# Altium footprint library 22-Pcblib_Audio.PcbLib: 32 footprints (part 2 of 2)
Each footprint in its own frame and in the unit in brackets; x right, y up, seen from the top. Pads: shape width x height; smd on the part's side, far side on the other; paste and mask are expansions set on the pad; w line width, h text height; cw(c..) or ccw(c..) is an arc to the next point about the centre after c.
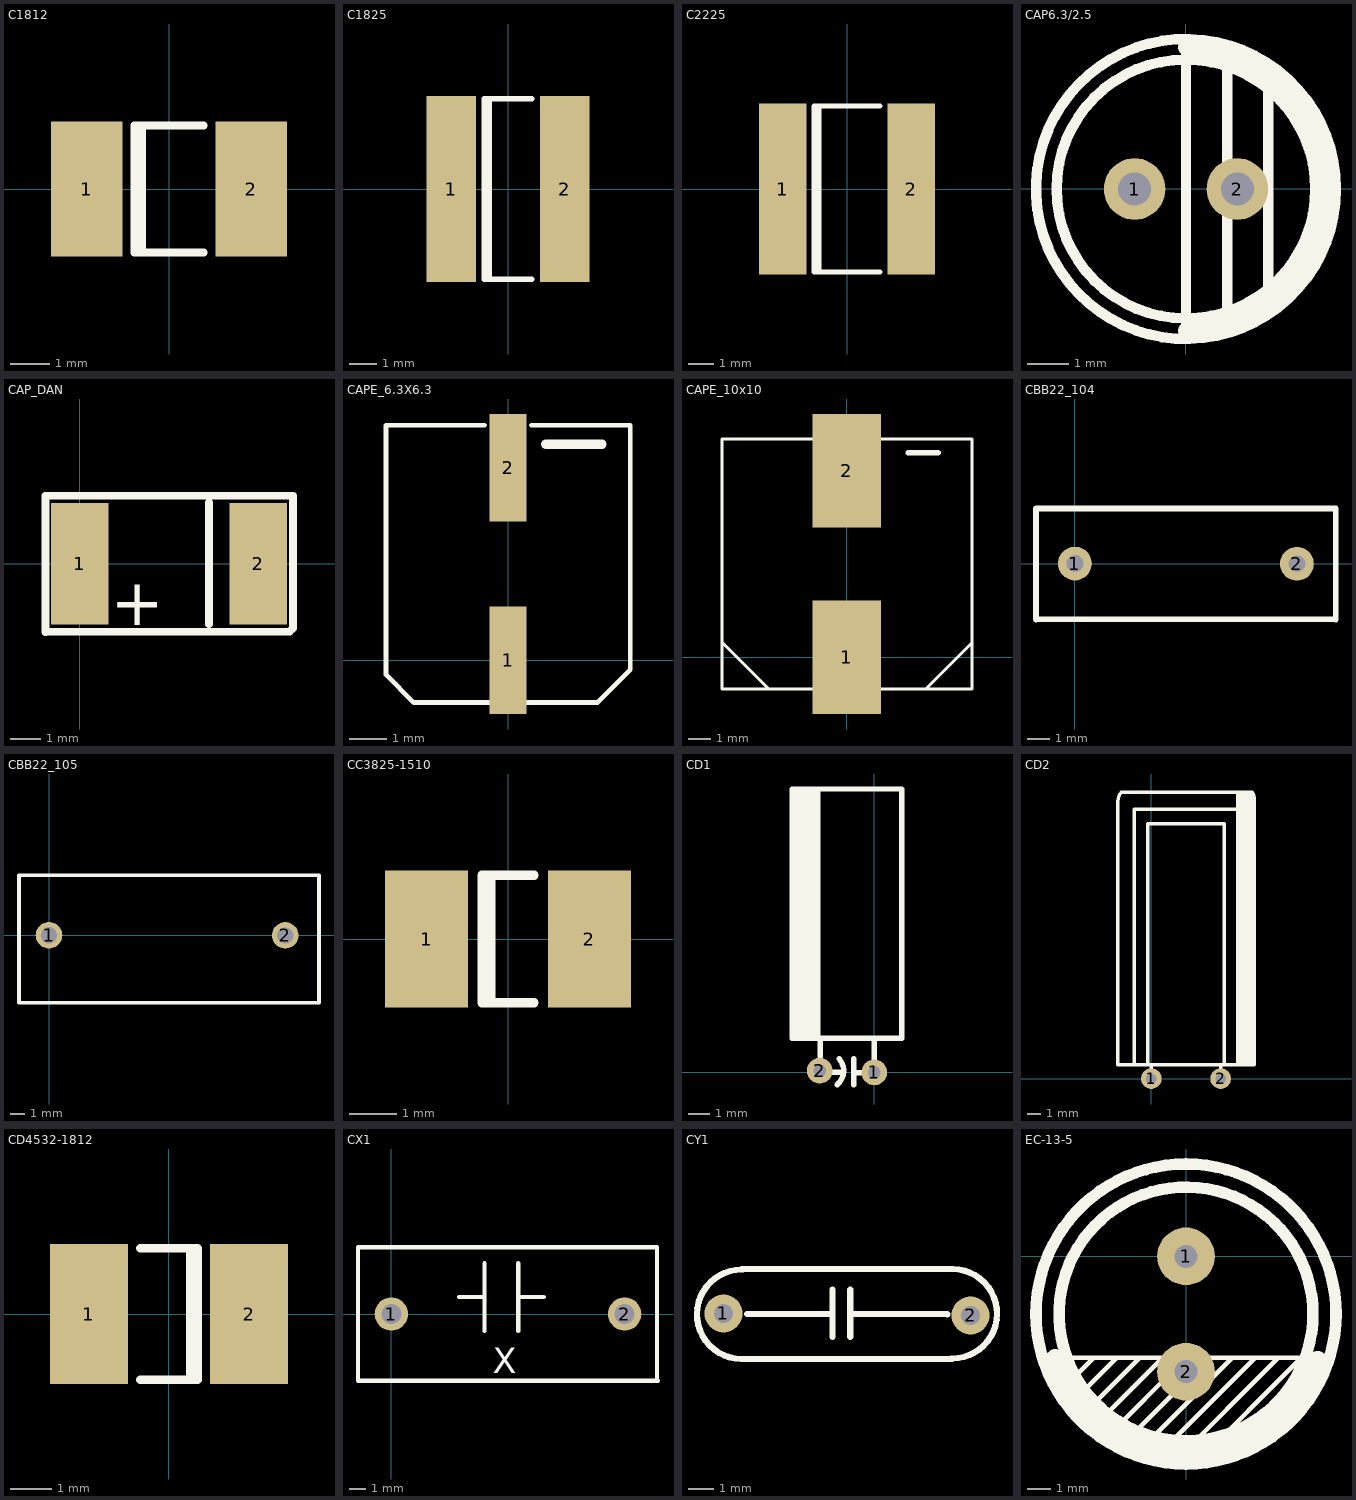
[diagram p1: the footprints below, top view; thin cyan lines are the x and y axes]

## C1812 [mm] "Chip Capacitor; Body 4.5 x 3.2 mm (LxW typ)"
height 2.03
pads (2):
  rect 1.8x3.4 smd: 1(-2.075,0) 2(2.075,0)
Top Overlay:
  lines w0.2: -0.685,-1.6 -0.685,1.6 ; 0.875,-1.6 -0.875,-1.6 -0.875,1.6 0.875,1.6

## C1825 [mm] "Chip Capacitor; Body 4.5 x 6.4 mm (LxW typ)"
height 2.03
pads (2):
  rect 1.8x6.8 smd: 1(-2.075,0) 2(2.075,0)
Top Overlay:
  lines w0.2: -0.685,-3.3 -0.685,3.3 ; 0.875,-3.3 -0.875,-3.3 -0.875,3.3 0.875,3.3

## C2225 [mm] "Chip Capacitor; Body 5.6 x 6.4 mm (LxW typ)"
height 2.03
pads (2):
  rect 1.9x6.8 smd: 1(-2.55,0) 2(2.55,0)
Top Overlay:
  lines w0.2: -1.11,-3.3 -1.11,3.3 ; 1.3,-3.3 -1.3,-3.3 -1.3,3.3 1.3,3.3

## CAP6.3/2.5 [mm]
pads (2):
  round 1.5 hole 0.8: 1(-1.25,-0.002) 2(1.25,-0.002)
Top Overlay:
  circle w0.254: c0,-0.002 r3.65
  circle w0.254: c0,-0.002 r3.15
  lines w0.254: 0,-3.652 0,3.648 ; 1,-3.502 1,3.498 ; 2,-3.002 2,2.998
  lines w0.4: 0,-3.452 ccw(c0,-0.002) 0,3.448

## CAP_DAN [mm]
pads (2):
  rect 1.905x4 smd: 1(0,0) 2(5.88,0)
Top Overlay:
  lines w0.2: -1.065,-2.24 1.348,-2.24
  lines w0.254: -1.13,-2.254 -1.13,2.23 ; -1.127,2.24 7.025,2.24 7.025,-2.121 6.906,-2.24 ; -1.065,-2.24 6.906,-2.24 ; 1.348,-2.24 6.906,-2.24 ; 4.26,-1.98 4.26,2.02
  text "+" at 1.016,-2.032 h1.52

## CAPE_6.3X6.3 [mm]
pads (2):
  rect 1x2.9 smd: 1(0,0) 2(0,5.207)
Top Overlay:
  lines w0.127: -3.302,-0.381 -2.542,-1.141 2.415,-1.141 3.3,-0.256 3.3,6.35 0.635,6.35 ; -3.3,-0.379 -3.3,6.35 -0.635,6.35
  lines w0.254: 1.016,5.842 2.54,5.842

## CAPE_10x10 [mm]
pads (2):
  rect 3x5 smd: 1(0,0) 2(0,8.204)
Top Overlay:
  lines w0.127: -5.486,0.659 -3.429,-1.399 ; 3.48,-1.399 5.514,0.635 ; -5.486,-1.399 -5.486,9.601 5.514,9.601 5.514,-1.399 -5.486,-1.399
  lines w0.254: 2.714,9.001 4.014,9.001

## CBB22_104 [mil]
pads (2):
  round 60 hole 30: 1(0,0) 2(393.7,-0.39)
Top Overlay:
  lines w10: -68.9,-99.21 -68.9,97.64 ; -68.9,-98.82 462.6,-98.82 ; -68.11,97.64 461.65,97.64 cw(c461.65,96.29) 462.6,97.24 462.6,-99.21

## CBB22_105 [mm] "105"
pads (2):
  round 1.8 hole 1.1: 1(0,0) 2(16,-0.01)
Top Overlay:
  lines w0.254: -2.032,-4.572 -2.032,4.064 18.288,4.064 18.288,-4.572 -2.032,-4.572

## CC3825-1510 [mm]
pads (2):
  rect 1.75x2.9 smd: 1(-1.725,0) 2(1.725,0)
Top Overlay:
  lines w0.2: -0.36,-1.35 -0.36,1.35 ; 0.55,-1.35 -0.55,-1.35 -0.55,1.35 0.55,1.35

## CD1 [mm]
pads (2):
  round 1.2 hole 0.6: 1(0,0) 2(-2.54,0.08)
Top Overlay:
  rectangle: -3.82,1.59 -2.62,13.19
  lines w0.254: -2.62,1.59 -2.62,13.19 ; -2.52,1.59 cw(c-2.544,1.566) -2.51,1.566 -2.51,0.75 ; -1.95,0 cw(c-1.926,-0.024) -1.926,0.01 -1.53,0.01 ; -1.73,-0.57 ccw(c-2.28,0.08) -1.63,0.63 ; -0.95,-0.57 -0.95,0.63 ; -0.95,-0.01 -0.58,-0.01 ; -0.02,1.59 cw(c-0.044,1.566) -0.01,1.566 -0.01,0.61 ; -3.82,1.59 -3.82,13.19 1.28,13.19 1.28,1.59 -3.82,1.59

## CD2 [mil]
pads (2):
  round 60 hole 30: 1(0,0) 2(200.79,0)
Top Overlay:
  rectangle: 288.98,811.42 291.34,827.56
  rectangle: 244.88,811.42 288.98,827.56
  rectangle: 244.88,775.98 297.24,818.11
  rectangle: 250,40.55 297.24,778.41
  lines w10: -49.21,40.71 -49.21,533.47 ; -49.21,506.3 -49.21,742.75 -49.21,774.38 ; -49.12,778.41 81.1,778.41 ; -9.84,39.76 -9.84,658.66 -9.84,737.14 70.47,737.14 196.46,737.14 210.3,737.14 cw(c210.3,736.68) 210.63,737.01 210.63,659.45 ; -0.39,39.76 cw(c-1.34,38.81) 0,38.81 0,0 ; 71.26,778.41 250,778.41 250,725.2 250,405.51 ; 200.79,0 200.79,38.81 ; 210.63,679.53 210.63,40.72 ; 250,39.76 250,429.92 ; 297.24,39.76 -96.46,39.76 -96.46,803.42 cw(c-62.31,803.42) -86.46,827.56 282.5,827.56 291.34,827.56 cw(c277.08,813.3) 297.25,813.3 297.24,791.96 297.24,40.95 ; 200.79,38.81 cw(c202.13,38.81) 201.18,39.76 ccw(c202.13,38.81) 200.79,38.81 ; 210.63,40.72 cw(c209.29,40.72) 210.24,39.76 ccw(c209.29,40.72) 210.63,40.72

## CD4532-1812 [mm]
pads (2):
  rect 1.9x3.4 smd: 1(-1.95,0) 2(1.95,0)
Top Overlay:
  lines w0.2: -0.7,-1.6 0.7,-1.6 0.7,1.6 -0.7,1.6 ; 0.51,-1.6 0.51,1.6

## CX1 [mm] "安规电容-X"
pads (2):
  round 2 hole 1.2: 1(0,0) 2(14,0)
Top Overlay:
  lines w0.254: 4.064,1.016 5.588,1.016 ; 5.588,-1.016 5.588,3.048 ; 7.62,-1.016 7.62,3.048 ; 7.62,1.016 9.144,1.016 ; 15.936,-3.936 15.936,4 -2,4 -2,-4 16,-4
  text "X" at 6.096,-3.556 h1.52

## CY1 [mil]
pads (2):
  round 60 hole 30: 1(2041.73,-6999.21) 2(2430.71,-7002.36)
Top Overlay:
  lines w10: 2079.13,-7000 2209.91,-7000 ; 2213.39,-7035.83 2213.39,-6982.28 2213.39,-6961.81 ; 2241.34,-7035.83 2241.34,-6983.07 ; 2241.34,-7000 2392.59,-7000 cw(c2392.59,-7002.69) 2394.49,-7000.79 ; 2241.34,-6983.86 2241.34,-6961.81 ; 2069.29,-7070.87 cw(c2070.4,-7000.51) 2070.4,-6930.15 cw(c2072.3,-6932.05) 2072.3,-6929.37 2403.07,-6929.36 cw(c2401.97,-6999.72) 2401.97,-7070.08 cw(c2400.07,-7068.18) 2400.07,-7070.86 2069.29,-7070.87

## EC-13-5 [mm]
pads (2):
  round 2.5 hole 1: 1(0,0) 2(0,-5)
Top Overlay:
  circle w0.5: c0,-2.5 r6.5
  circle w0.5: c0,-2.5 r5.5
  lines w0.2: -6.2,-4.4 6.2,-4.4 ; -5.8,-5.2 -5,-4.4 ; -5.5,-5.9 -4,-4.4 ; -5.1,-6.5 -3,-4.4 ; -4.6,-7 -2,-4.4 ; -4.1,-7.5 -1,-4.4 ; -3.5,-7.9 0,-4.4 ; -2.9,-8.3 1,-4.4 ; -2.2,-8.6 2,-4.4 ; -1.4,-8.8 3,-4.4 ; -0.5,-8.9 4,-4.4 ; 0.4,-9 5,-4.4 ; 1.6,-8.8 6,-4.4
  lines w0.8: -5.669,-4.411 ccw(c0.031,-2.511) 5.7,-4.5